# Altium footprint library TDA7292 Amplifier.PcbLib: 16 footprints
Each footprint in its own frame and in the unit in brackets; x right, y up, seen from the top. Pads: shape width x height; smd on the part's side, far side on the other; paste and mask are expansions set on the pad; w line width, h text height; cw(c..) or ccw(c..) is an arc to the next point about the centre after c.
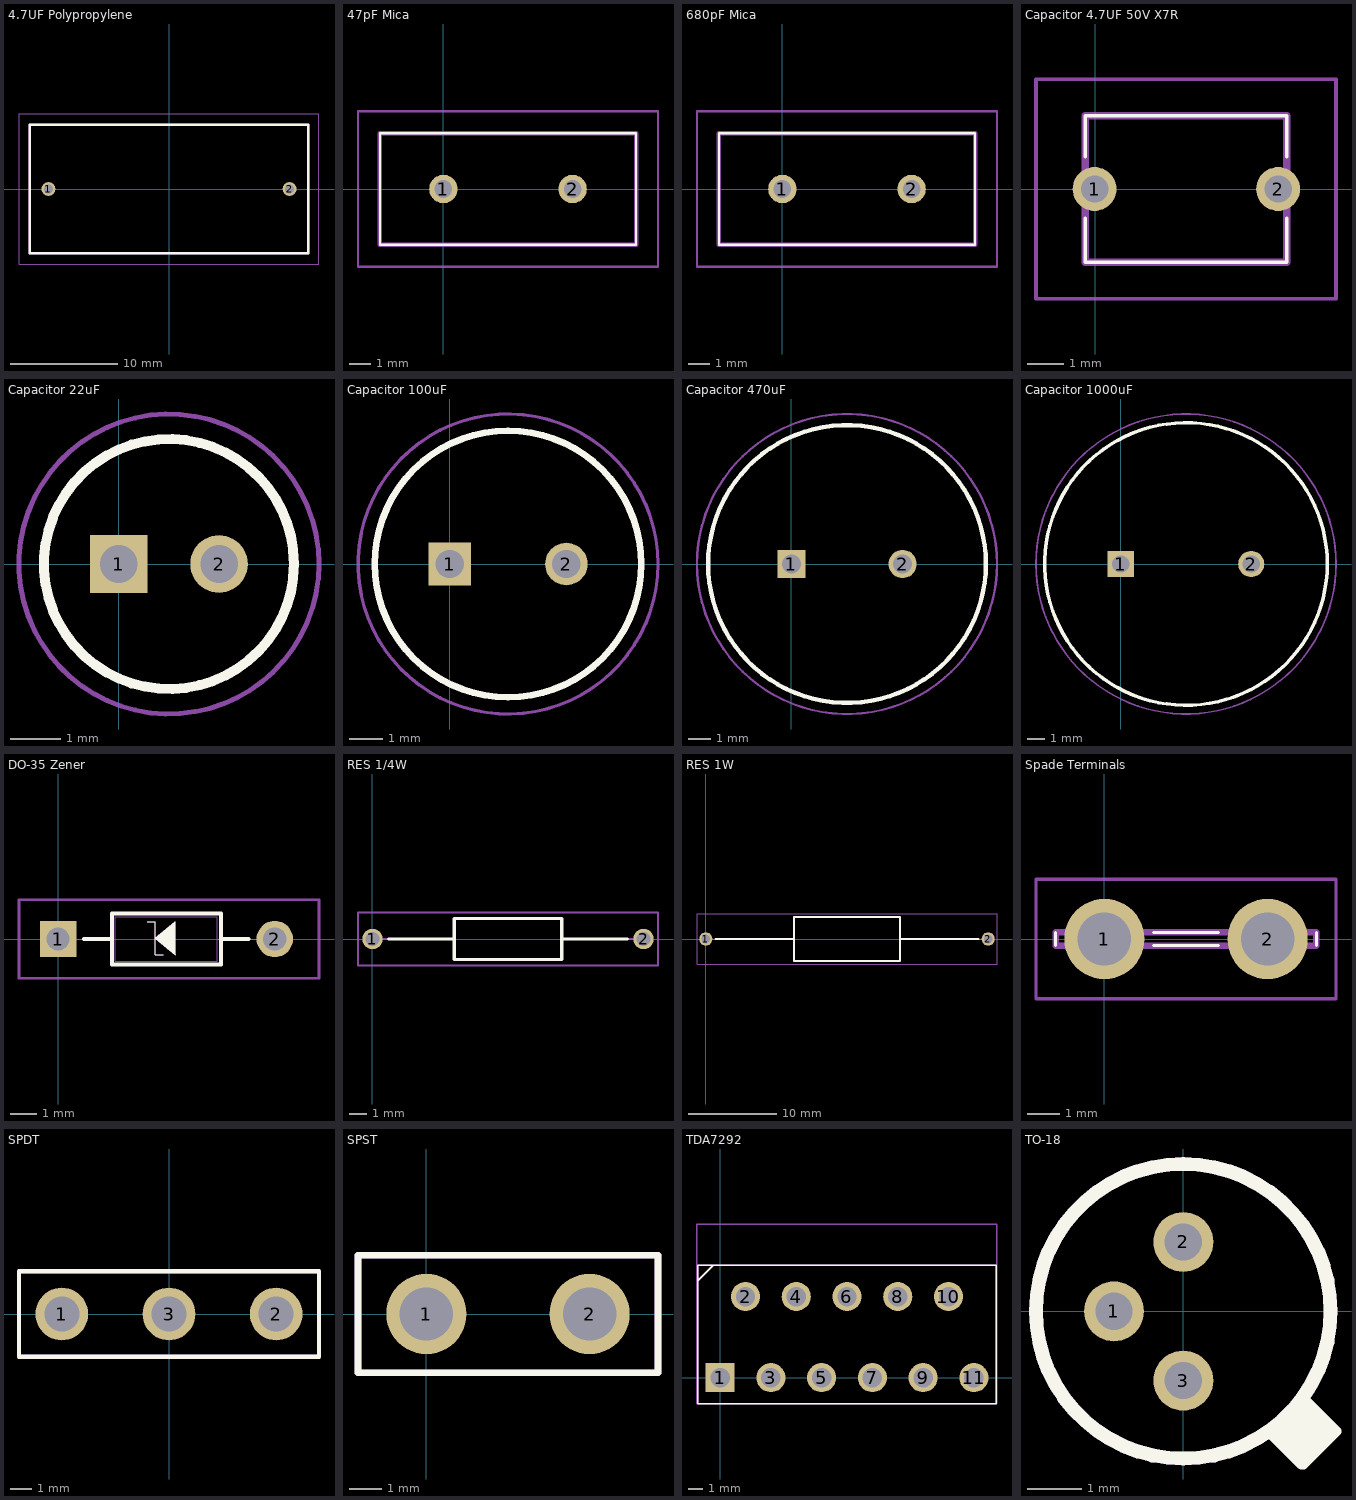
[diagram p0: the footprints below, top view; thin cyan lines are the x and y axes]

## 4.7UF Polypropylene [mm]
pads (2):
  round 1.3 hole 0.8: 1(-11.25,0) 2(11.25,0)
Top Overlay:
  lines w0.2: -13,-6 13,-6 13,6 12.75,6 -13,6 -13,-6
Mechanical 13:
  lines w0.2: -13,-6 13,-6 13,6 12.75,6 -13,6 -13,-6
  text "'.Designator'" at -8.246,2.762 h1.52
Mechanical 15:
  lines w0.1: -14,-7 14,-7 14,7 -14,7 -14,-7

## 47pF Mica [mm]
pads (2):
  round 1.3 hole 0.8: 1(0,0) 2(5.9,0)
Top Overlay:
  lines w0.1: -2.9,-2.55 -2.9,2.55 8.8,2.55 8.8,-2.55 -2.9,-2.55
Mechanical 13:
  lines w0.2: -2.9,-2.55 -2.9,2.55 8.8,2.55 8.8,-2.55 -2.9,-2.55
  text "'.Designator'" at -2.746,1.087 h1
Mechanical 15:
  lines w0.1: -3.9,-3.55 -3.9,3.55 9.8,3.55 9.8,-3.55 -3.9,-3.55
3D body "CD15FD221FO3F.stp": height 11.68, standoff -5, extent -2.9,-2.55 8.8,2.55

## 680pF Mica [mm]
pads (2):
  round 1.3 hole 0.8: 1(0,0) 2(5.9,0)
Top Overlay:
  lines w0.1: -2.9,-2.55 8.8,-2.55 8.8,2.55 -2.9,2.55 -2.9,-2.55
Mechanical 13:
  lines w0.2: -2.9,-2.55 8.8,-2.55 8.8,2.55 -2.9,2.55 -2.9,-2.55
  text "'.Designator'" at -2.665,1.087 h1
Mechanical 15:
  lines w0.1: -3.9,-3.55 9.8,-3.55 9.8,3.55 -3.9,3.55 -3.9,-3.55
3D body "CD15FD221FO3F.stp": height 11.68, standoff -5, extent -2.9,-2.55 8.8,2.55

## Capacitor 4.7UF 50V X7R [mm]
pads (2):
  round 1.2 hole 0.75: 1(-0.02,0) 2(5,0)
Top Overlay:
  lines w0.1: -0.27,-0.8 -0.27,-2 5.23,-2 5.23,-0.8 ; -0.27,0.88 -0.27,2 5.23,2 5.23,0.88
Mechanical 13:
  lines w0.2: -0.27,-2 5.23,-2 5.23,2 -0.27,2 -0.27,-2
  text "'.Designator'" at -2.915,1.087 h1
Mechanical 15:
  lines w0.1: -1.62,-3 6.58,-3 6.58,3 -1.62,3 -1.62,-3
3D body "RCER71H475K3M1H03A.stp": height 7.6, standoff -5, extent -0.293,-2 5.255,2

## Capacitor 22uF [mm]
pads (2):
  rect 1.15x1.15 hole 0.75: 1(0,0)
  round 1.15 hole 0.75: 2(2,0)
Top Overlay:
  circle w0.2: c1,0 r2.5
Mechanical 13:
  circle w0.1: c1,0 r2.5
  text "'.Designator'" at -4.665,1.087 h1
Mechanical 15:
  circle w0.1: c1,0 r3
3D body "EEU-FM1H220.stp": height 12.5, standoff -10, extent -1.75,-2.75 3.75,2.75

## Capacitor 100uF [mm]
pads (2):
  rect 1.275x1.275 hole 0.85: 1(0,0)
  round 1.275 hole 0.85: 2(3.5,0)
Top Overlay:
  circle w0.2: c1.75,0 r4
Mechanical 13:
  circle w0.1: c1.75,0 r4
  text "'.Designator'" at -3.665,1.587 h1
Mechanical 15:
  circle w0.1: c1.75,0 r4.5
3D body "EEU-FM1H101.stp": height 13, standoff -10, extent -2.5,-4.25 6,4.25

## Capacitor 470uF [mm]
pads (2):
  rect 1.275x1.275 hole 0.85: 1(0,0)
  round 1.275 hole 0.85: 2(5,0)
Top Overlay:
  circle w0.2: c2.5,0 r6.25
Mechanical 13:
  circle w0.1: c2.5,0 r6.25
  text "'.Designator'" at -6.133,2.762 h1.52
Mechanical 15:
  circle w0.1: c2.5,0 r6.75
3D body "EEUFM1H471.stp": height 22, standoff -10, extent -4,-6.5 9,6.5

## Capacitor 1000uF [mm]
pads (2):
  rect 1.5x1.5 hole 1: 1(0,0)
  round 1.5 hole 1: 2(7.5,0)
Top Overlay:
  circle w0.2: c3.75,0 r8.125
Mechanical 13:
  circle w0.1: c3.75,0 r8.125
  text "'.Designator'" at -4.996,3.012 h1.52
Mechanical 15:
  circle w0.1: c3.75,0 r8.625
3D body "UHE1H102MHD6TN.stp": height 27, standoff -10, extent -4.5,-8.25 12,8.25

## DO-35 Zener [mil]
pads (2):
  rect 55x55 hole 35 mask+0: 1(0,0)
  round 55 hole 35 mask+0: 2(327,0)
Top Overlay:
  region: 146.42,1.06 176.42,1.06 176.42,-23.94
  region: 176.42,26.06 176.42,1.06 146.42,1.06
  lines w0.98: 134.33,26.06 146.42,26.06 ; 146.42,-23.94 158.5,-23.94
  lines w1: 146.42,-23.94 146.42,26.06 ; 146.42,1.06 176.42,26.06 176.42,-23.94 146.42,1.06
  lines w5.98: 39.37,0 81.5,0 ; 245.5,0 287.63,0
  lines w6: 81.5,-38.5 81.5,38.5 245.5,38.5 245.5,-38.5 81.5,-38.5
Mechanical 13:
  region: 176.42,26.06 176.42,1.06 146.42,1.06
  region: 146.42,1.06 176.42,1.06 176.42,-23.94
  region: 176.42,26.06 176.42,1.06 146.42,1.06
  region: 146.42,1.06 176.42,1.06 176.42,-23.94
  lines w0.98: 134.33,26.06 146.42,26.06 134.33,26.06 ; 146.42,-23.94 158.5,-23.94 146.42,-23.94
  lines w1: 0,0 86.5,0 ; 240.5,0 327,0 ; 146.42,1.06 176.42,-23.94 ; 146.42,1.06 176.42,26.06 ; 146.42,1.06 176.42,-23.94 ; 146.42,1.06 176.42,26.06 ; 176.42,-23.94 176.42,26.06 ; 176.42,-23.94 176.42,26.06 ; 86.5,-33.5 86.5,33.5 240.5,33.5 240.5,-33.5 86.5,-33.5 ; 146.42,-23.94 146.42,26.06 146.42,-23.94
Mechanical 15:
  lines w3.94: 59.06,59.06 393.7,59.06 ; 393.7,59.06 -59.06,59.06 -59.06,-59.06 393.7,-59.06 393.7,59.06
3D body: height 10, standoff 0, extent 0,0 10,10

## RES 1/4W [mm]
pads (2):
  round 1.2 hole 0.8: 1(0,0) 2(15.9,0)
Top Overlay:
  lines w0.2: 0.95,0 4.8,0 ; 11.1,0 14.95,0 ; 4.8,-1.2 11.1,-1.2 11.1,1.2 4.8,1.2 4.8,-1.2
Mechanical 13:
  lines w0.1: 0,0 4.8,0 ; 11.1,0 16,0 ; 4.8,-1.2 11.1,-1.2 11.1,1.2 4.8,1.2 4.8,-1.2
  text "'.Designator'" at 2.004,-0.413 h1
Mechanical 15:
  lines w0.1: -0.85,-1.55 16.75,-1.55 16.75,1.55 -0.85,1.55 -0.85,-1.55
3D body "CFR-25JT-52-1K.stp": height 2.59, standoff -2.6, extent -0.298,-1.297 16.2,1.297

## RES 1W [mm]
pads (2):
  round 1.5 hole 1: 1(0,0) 2(32,0)
Top Overlay:
  lines w0.2: 1.1,0 10,0 ; 22,0 30.9,0 ; 10,-2.5 22,-2.5 22,2.5 10,2.5 10,-2.5
Mechanical 13:
  lines w0.1: 0,0 10,0 ; 22,0 32,0 ; 10,-2.5 22,-2.5 22,2.5 10,2.5 10,-2.5
  text "'.Designator'" at 7.004,-0.488 h1.52
Mechanical 15:
  lines w0.1: -1,-2.85 33,-2.85 33,2.85 -1,2.85 -1,-2.85
3D body "OM2405E-R58.stp": height 5, standoff -5, extent -0.402,-2.497 32.405,2.497

## Spade Terminals [mm]
pads (2):
  round 2.46 hole 1.64: 1(0,0) 2(5,0)
Top Overlay:
  lines w0.1: -1.5,-0.2 -1.5,0.2 ; 1.5,-0.2 3.5,-0.2 ; 1.5,0.2 3.5,0.2 ; 6.5,-0.2 6.5,0.2
Mechanical 13:
  lines w0.2: -1.5,-0.2 6.5,-0.2 6.5,0.2 -1.5,0.2 -1.5,-0.2
  text "'.Designator'" at -5.746,2.262 h1.52
Mechanical 15:
  lines w0.1: -2.1,-1.83 7.1,-1.83 7.1,1.83 -2.1,1.83 -2.1,-1.83
3D body "725964-2.stp": height 13.2, standoff -5, extent -1.5,-0.719 6.5,0.719

## SPDT [mm]
pads (3):
  round 2.46 hole 1.64: 1(-5,0) 2(5,0) 3(0,0)
Top Overlay:
  lines w0.2: -7,-2 7,-2 7,2 -7,2 -7,-2
Mechanical 13:
  lines w0.2: -7,-2 7,-2 7,2 -7,2 -7,-2
  text "'.Designator'" at -8.133,3.262 h1.52
Mechanical 15:
  lines w0.1: -7,-2 -7,-0.915 -7,0.915 -7,2 7,2 7,-2 -7,-2

## SPST [mm]
pads (2):
  round 2.46 hole 1.64: 1(0,0) 2(5,0)
Top Overlay:
  lines w0.2: -2.1,-1.8 -2.1,1.8 7.1,1.8 7.1,-1.8 -2.1,-1.8
Mechanical 13:
  lines w0.2: -2.1,-1.8 -2.1,1.8 7.1,1.8 7.1,-1.8 -2.1,-1.8
  text "'.Designator'" at -5.833,2.662 h1.52
Mechanical 15:
  lines w0.1: -2.1,-1.8 -2.1,1.8 7.1,1.8 7.1,-1.8 -2.1,-1.8

## TDA7292 [mm]
pads (11):
  rect 1.95x1.95 hole 1.3: 1(0,0)
  round 1.95 hole 1.3: 2(1.7,5.43) 3(3.4,0) 4(5.1,5.43) 5(6.8,0) 6(8.5,5.43) 7(10.2,0) 8(11.9,5.43) 9(13.6,0) 10(15.3,5.43) 11(17,0)
Top Overlay:
  lines w0.1: -1.49,6.49 -0.45,7.53 ; -1.5,-1.75 -1.5,7.53 18.5,7.53 18.5,-1.75 13.4,-1.75 3.6,-1.75 -1.5,-1.75
Mechanical 13:
  lines w0.1: -1.49,6.49 -0.45,7.53 ; -1.5,-1.75 -1.5,7.53 18.5,7.53 18.5,-1.75 13.4,-1.75 3.6,-1.75 -1.5,-1.75
  text "'.Designator'" at 0.004,2.262 h1.52
Mechanical 15:
  lines w0.1: -1.55,-1.75 18.55,-1.75 18.55,10.28 13.525,10.28 3.475,10.28 -1.55,10.28 -1.55,-1.75
3D body "TDA7292.stp": height 20.53, standoff -6.05, extent -1.3,-0.26 18.3,10.28

## TO-18 [mm]
pads (3):
  round 1.1 hole 0.68: 1(-1.27,0) 2(0,1.27) 3(0,-1.27)
Top Overlay:
  circle w0.254: c0,0 r2.7
  region: 2.175,-1.6 2.2,-1.6 2.8,-2.2 2.2,-2.8 2.165,-2.8 1.565,-2.2
  lines w0.2: 1.565,-2.2 2.165,-2.8 2.2,-2.8 2.8,-2.2 ; 2.165,-1.6 2.2,-1.6 2.8,-2.2 ; 2.543,-2.457 2.8,-2.2 ; 2.8,-2.2 2.8,-2.2
Mechanical 13:
  circle w0.254: c0,0 r2.7